# EAGLE library part TSM-116-DV (library samtec-tlm)
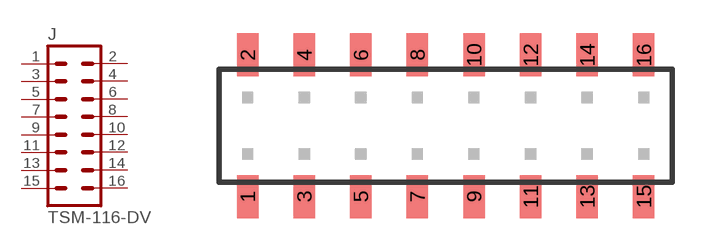
[diagram p1: symbol with the pads of TSM-116-DV; footprint TSM-116-DV]

Designator prefix J

## TSM-116-DV  [TSM-116-DV]
1  1  pas
2  2  pas
3  3  pas
4  4  pas
5  5  pas
6  6  pas
7  7  pas
8  8  pas
9  9  pas
10  10  pas
11  11  pas
12  12  pas
13  13  pas
14  14  pas
15  15  pas
16  16  pas

## Footprint TSM-116-DV (pad centres in mm)
smd 0.965 x 1.93: 1 -2.54,-3.175; 2 -2.54,3.175; 3 0,-3.175; 4 0,3.175; 5 2.54,-3.175; 6 2.54,3.175; 7 5.08,-3.175; 8 5.08,3.175; 9 7.62,-3.175; 10 7.62,3.175; 11 10.16,-3.175; 12 10.16,3.175; 13 12.7,-3.175; 14 12.7,3.175; 15 15.24,-3.175; 16 15.24,3.175